# EAGLE library part DS1307 (library mylib)
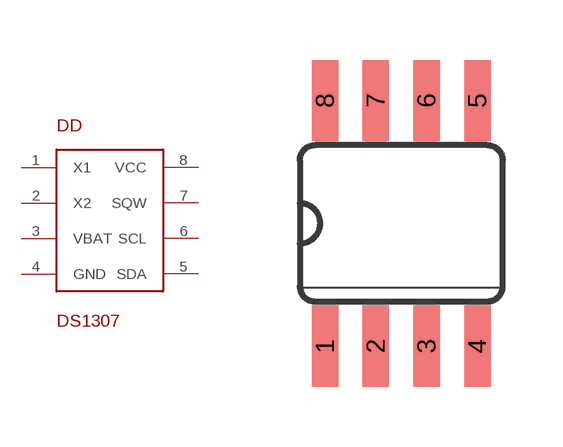
[diagram p1: symbol with the pads of SO08; footprint SO08]

Designator prefix DD

## DS1307  [SO08]
1  X1
2  X2
3  VBAT
4  GND
5  SDA
6  SCL
7  SQW
8  VCC

## Footprint SO08 (pad centres in mm)
SOIC 150 mil
smd 0.66 x 2.032: 1 -1.905,-3.073; 2 -0.635,-3.073; 3 0.635,-3.073; 4 1.905,-3.073; 5 1.905,3.073; 6 0.635,3.073; 7 -0.635,3.073; 8 -1.905,3.073